# Altium schematic symbol library 23cm_amplifier.SCHLIB: 1 symbol
Pins are listed as number, name and electrical type; pins without a type are passive.

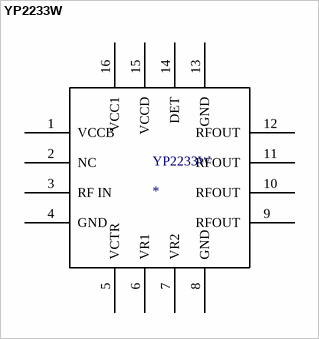
[diagram p0: symbol YP2233W]

## YP2233W
designator YP2233W
ComponentLink1Description: Datasheet; ComponentLink1URL: http://pro366bdc.pic21.websiteonline.cn/upload/innotionyp2233wdatasheet_8gzy.pdf
footprint YP2233W (YP2233W amplifier)
pins: 1 VCCB, 2 NC, 3 RF IN, 4 GND, 5 VCTR, 6 VR1, 7 VR2, 8 GND, 9 RFOUT, 10 RFOUT, 11 RFOUT, 12 RFOUT, 13 GND, 14 DET, 15 VCCD, 16 VCC1